# Altium footprint library Footprint.PcbLib: 31 footprints (part 1 of 2)
Each footprint in its own frame and in the unit in brackets; x right, y up, seen from the top. Pads: shape width x height; smd on the part's side, far side on the other; paste and mask are expansions set on the pad; w line width, h text height; cw(c..) or ccw(c..) is an arc to the next point about the centre after c.
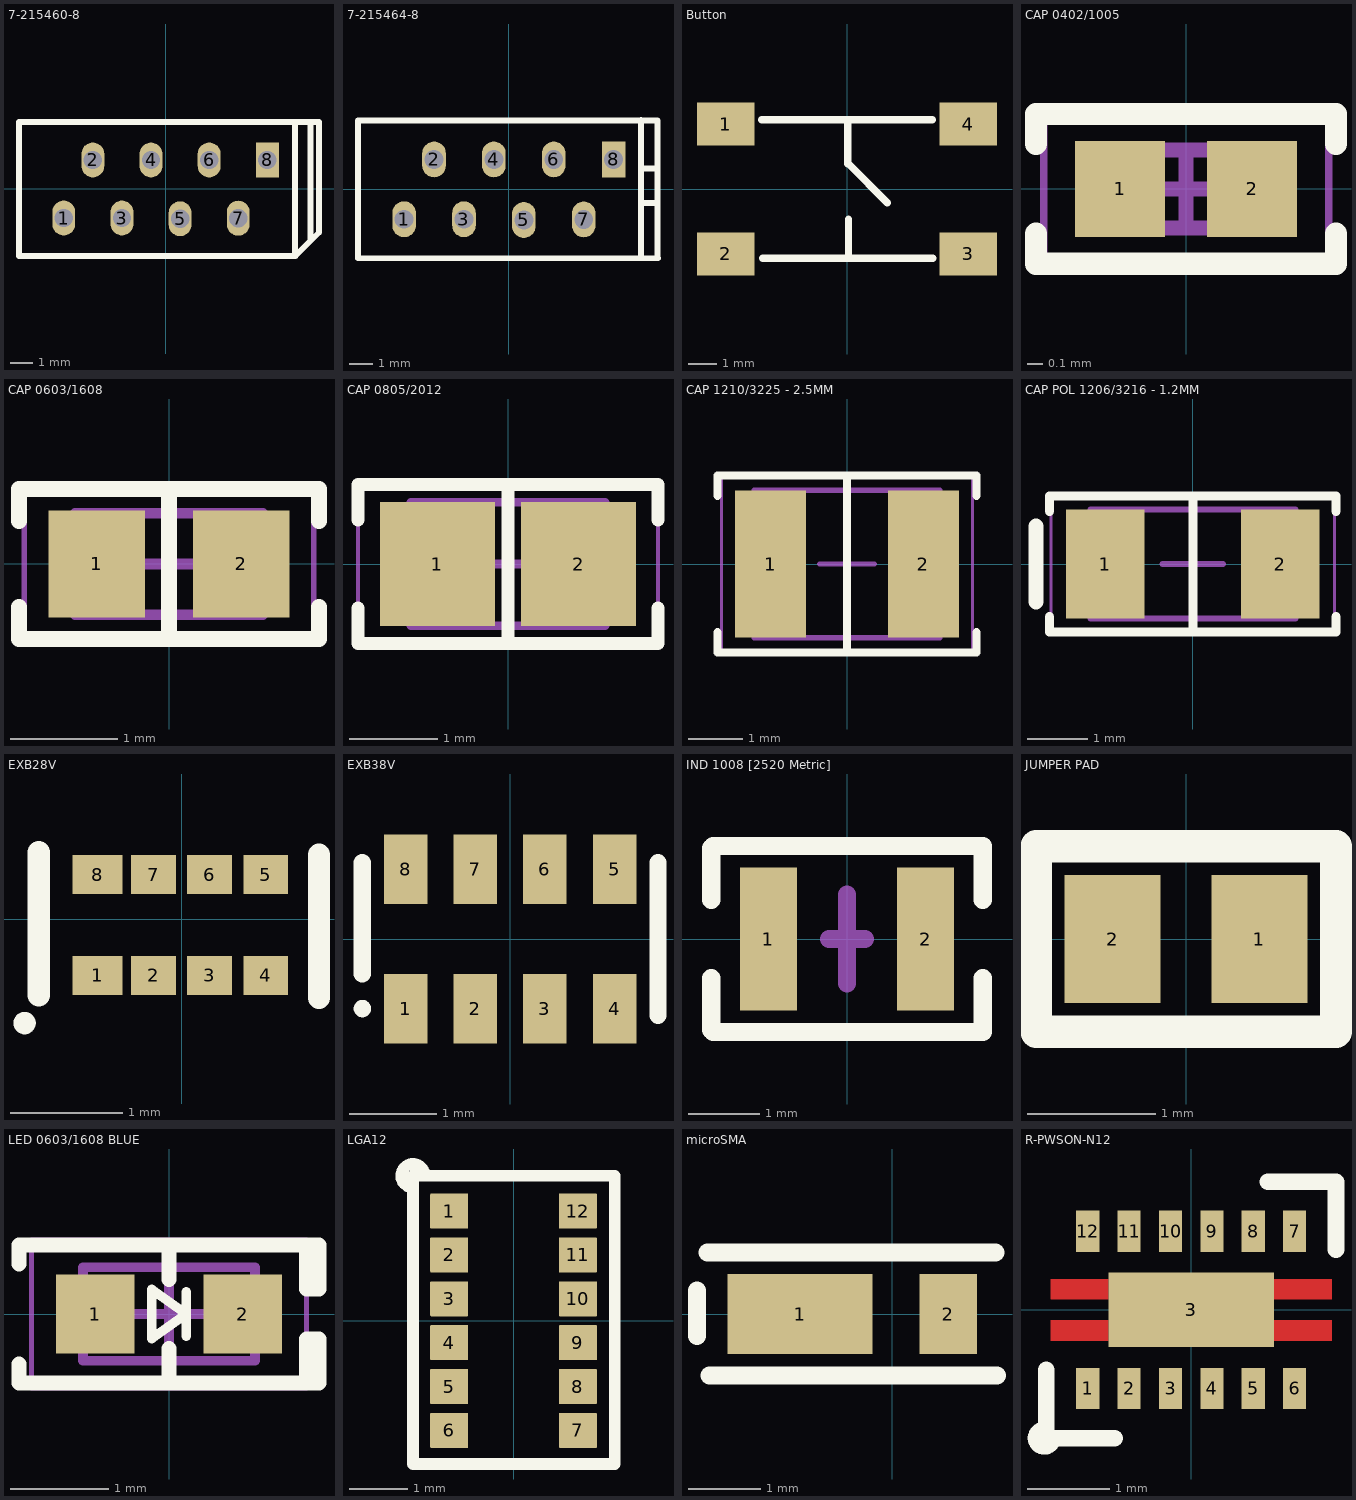
[diagram p0: the footprints below, top view; thin cyan lines are the x and y axes]

## 7-215460-8 [mm] "Connecteur carte-à-carte, Entrée latérale, 1.27 mm, 8 Contact(s), Embase, Série Micro-MaTch"
pads (8):
  oval 1x1.524 hole 0.8: 1(-4.445,-1.27) 2(-3.175,1.27) 3(-1.905,-1.27) 4(-0.635,1.27) 5(0.635,-1.3) 6(1.905,1.27) 7(3.175,-1.275)
  rect 1x1.524 hole 0.8: 8(4.445,1.27)
Top Overlay:
  lines w0.254: 5.65,2.625 5.65,2.925 5.65,-2.925 6.325,-2.25 6.325,2.925 ; 6.7,2.85 6.7,-1.9 5.675,-2.925 -6.4,-2.925 -6.4,2.925 6.7,2.925

## 7-215464-8 [mm] "Connecteur carte-à-carte, 1.27 mm, 8 Contact(s), Mâle, Série Micro-MaTch, Traversant, 2 Rangée(s)"
pads (8):
  oval 1x1.524 hole 0.8: 1(-4.445,-1.27) 2(-3.175,1.27) 3(-1.905,-1.27) 4(-0.635,1.27) 5(0.635,-1.3) 6(1.905,1.27) 7(3.175,-1.275)
  rect 1x1.524 hole 0.8: 8(4.445,1.27)
Top Overlay:
  lines w0.254: 5.6,-0.575 6.3,-0.575 ; 5.6,0.875 6.275,0.875 ; 5.6,2.95 5.6,-2.925 6.3,-2.925 6.3,2.925 -6.4,2.925 -6.4,-2.925 6.325,-2.925

## Button [mm]
pads (4):
  rect 2x1.5 smd: 1(-4.2,2.25) 2(-4.2,-2.25) 3(4.2,-2.25) 4(4.2,2.25)
Top Overlay:
  lines w0.254: -2.95,2.4 2.95,2.4 ; -2.925,-2.4 2.975,-2.4 ; 0.025,2.4 0.025,1.075 0.025,0.875 0.05,0.875 1.4,-0.475 ; 0.05,-2.375 0.05,-1.05
3D body "Tact Switch SMD 4.5x4.5mm.stp": height 3.8, standoff 0, extent -3.75,-2.25 3.75,2.25

## CAP 0402/1005 [mm] "Chip Capacitor, 2-Leads, Body 1.02x0.51mm, IPC Medium Density"
height 0.52
pads (2):
  rect 0.6x0.64 smd: 1(-0.44,0) 2(0.44,0)
Top Overlay:
  lines w0.15: -1,-0.3 -1,-0.5 1,-0.5 1,-0.3 ; -1,0.3 -1,0.5 1,0.5 1,0.3
Mechanical 13:
  lines w0.1: -0.515,-0.26 0.515,-0.26 0.515,0.26 -0.515,0.26 -0.515,-0.26
Mechanical 15:
  lines w0.05: -0.95,-0.5 0.95,-0.5 0.95,0.5 -0.95,0.5 -0.95,-0.5
  lines w0.1: -0.26,0 0.26,0 ; 0,-0.26 0,0.26
3D body "0402 cap.STEP": height 0.52, standoff 0, extent -0.5,-0.262 0.5,0.262

## CAP 0603/1608 [mm] "Chip Capacitor, 2-Leads, Body 1.60x0.80mm, IPC Medium Density"
height 0.89
pads (2):
  rect 0.9x1 smd: 1(-0.675,0) 2(0.675,0)
Top Overlay:
  lines w0.15: -1.4,-0.4 -1.4,-0.7 1.4,-0.7 1.4,-0.4 ; -1.4,0.4 -1.4,0.7 1.4,0.7 1.4,0.4 ; 0,-0.7 0,0.7
Mechanical 13:
  lines w0.1: -0.875,-0.475 -0.875,0.475 0.875,0.475 0.875,-0.475 -0.875,-0.475
Mechanical 15:
  lines w0.05: -1.35,-0.75 -1.35,0.75 1.35,0.75 1.35,-0.75 -1.35,-0.75
  lines w0.1: -0.475,0 0.475,0 ; 0,-0.475 0,0.475
3D body "0603 cap.STEP": height 0.82, standoff 0, extent -0.8,-0.412 0.8,0.412

## CAP 0805/2012 [mm] "Chip Capacitor, 2-Leads, Body 2.00x1.20mm, IPC Medium Density"
height 1.15
pads (2):
  rect 1.3x1.4 smd: 1(-0.8,0) 2(0.8,0)
Top Overlay:
  lines w0.15: -1.7,-0.5 -1.7,-0.9 1.7,-0.9 1.7,-0.5 ; -1.7,0.5 -1.7,0.9 1.7,0.9 1.7,0.5 ; 0,-0.9 0,0.9
Mechanical 13:
  lines w0.1: -1.1,-0.7 -1.1,0.7 1.1,0.7 1.1,-0.7 -1.1,-0.7
Mechanical 15:
  lines w0.05: -1.7,-0.95 -1.7,0.95 1.7,0.95 1.7,-0.95 -1.7,-0.95
  lines w0.1: -0.5,0 0.5,0 ; 0,-0.5 0,0.5
3D body "0805 cap.STEP": height 1.26, standoff -0.02, extent -1,-0.637 1,0.637

## CAP 1210/3225 - 2.5MM [mm] "Chip Capacitor, 2-Leads, Body 3.20x2.50mm, IPC Medium Density"
height 2.5
pads (2):
  rect 1.3x2.7 smd: 1(-1.4,0) 2(1.4,0)
Top Overlay:
  lines w0.15: -2.375,-1.25 -2.375,-1.625 2.375,-1.625 2.375,-1.25 ; -2.375,1.25 -2.375,1.625 2.375,1.625 2.375,1.25 ; 0,-1.625 0,1.625
Mechanical 13:
  lines w0.1: -1.7,-1.35 -1.7,1.35 1.7,1.35 1.7,-1.35 -1.7,-1.35
Mechanical 15:
  lines w0.05: -2.3,-1.6 -2.3,1.6 2.3,1.6 2.3,-1.6 -2.3,-1.6
  lines w0.1: -0.5,0 0.5,0 ; 0,-0.5 0,0.5
3D body "CAP 1210-2.5mm.STEP": height 2.5, standoff 0, extent -1.6,-1.25 1.6,1.25

## CAP POL 1206/3216 - 1.2MM [mm] "Chip Capacitor, 2-Leads, Body 3.25x1.60mm, IPC Medium Density"
height 1.2
pads (2):
  rect 1.3x1.8 smd: 1(-1.45,0) 2(1.45,0)
Top Overlay:
  lines w0.15: -2.375,-0.875 -2.375,-1.125 2.375,-1.125 2.375,-0.875 ; -2.375,0.875 -2.375,1.125 2.375,1.125 2.375,0.875 ; 0,-1.125 0,1.125
  lines w0.254: -2.6,-0.625 -2.6,0.625
Mechanical 13:
  lines w0.1: -1.7,-0.9 1.7,-0.9 1.7,0.9 -1.7,0.9 -1.7,-0.9
Mechanical 15:
  lines w0.05: -2.35,-1.15 2.35,-1.15 2.35,1.15 -2.35,1.15 -2.35,-1.15
  lines w0.1: -0.5,0 0.5,0 ; 0,-0.5 0,0.5
3D body "CAP 1206-1.2mm.STEP": height 1.2, standoff 0, extent -1.6,-0.8 1.6,0.8

## EXB28V [mm] "Réseau de résistance fixe, 4.7 kohm, 50 V, 4 Element(s), Isolé, 0402 [1005 Metric], 63 mW"
height 0.6
pads (8):
  rect 0.45x0.35 smd: 1(-0.75,-0.5) 8(-0.75,0.4)
  rect 0.4x0.35 smd: 2(-0.25,-0.5) 3(0.25,-0.5) 4(0.75,-0.5) 5(0.75,0.4) 6(0.25,0.4) 7(-0.25,0.4)
Top Overlay:
  circle w0.1: c-1.4,-0.925 r0.05
  lines w0.2: -1.275,-0.675 -1.275,0.6 ; 1.225,-0.7 1.225,0.575

## EXB38V [mm] "Chip Resistor Array, (0603x4); SM; 8 Leads; Body 3.40 x 1.75 mm (LxW max)"
height 0.6
pads (8):
  rect 0.5x0.8 smd: 1(-1.2,-0.8) 2(-0.4,-0.8) 3(0.4,-0.8) 4(1.2,-0.8) 5(1.2,0.8) 6(0.4,0.8) 7(-0.4,0.8) 8(-1.2,0.8)
Top Overlay:
  circle w0.1: c-1.7,-0.8 r0.05
  lines w0.2: -1.7,-0.4 -1.7,0.875 ; 1.7,-0.875 1.7,0.875

## IND 1008 [2520 Metric] [mm]
pads (2):
  rect 0.8x2 smd: 1(-1.1,0) 2(1.1,0)
Top Overlay:
  lines w0.254: -1.9,-1.275 -1.9,-0.55 ; -1.9,0.55 -1.9,1.275 ; -1.875,-1.3 1.9,-1.3 1.9,-0.55 ; -1.875,1.3 1.9,1.3 1.9,0.55
Mechanical 15:
  lines w0.254: -0.25,0 0.25,0 ; 0,-0.625 0,0.625
3D body: height 2.3, standoff 0.01, extent -1.05,-0.9 0.95,0.875

## JUMPER PAD [mm]
pads (2):
  rect 0.75x1 smd: 1(0.575,0) 2(-0.575,0)
Top Overlay:
  lines w0.254: -1.175,-0.725 -1.175,0.725 1.175,0.725 1.175,-0.725 -1.175,-0.725

## LED 0603/1608 BLUE [mm] "Chip Diode, 2-Leads, Body 1.60x0.80mm, IPC Medium Density"
height 0.45
pads (2):
  rect 0.8x0.8 smd: 1(-0.75,0) 2(0.75,0)
Top Overlay:
  lines w0.1: 0.175,-0.225 0.175,0 ; 0.175,0.225 0.175,0 ; 0.175,0 -0.175,-0.25 -0.175,0 -0.175,0.25 0.175,0
  lines w0.15: -1.524,-0.508 -1.524,-0.7 1.5,-0.7 ; -1.524,0.508 -1.524,0.7 1.5,0.7 ; 0,-0.7 0,-0.35 ; 0,0.35 0,0.7 ; 1.397,-0.7 1.397,-0.254 1.524,-0.254 1.524,-0.7 1.397,-0.7 ; 1.397,0.254 1.397,0.7 1.524,0.7 1.524,0.254 1.397,0.254
Mechanical 13:
  lines w0.1: -0.875,-0.475 0.875,-0.475 0.875,0.475 -0.875,0.475 -0.875,-0.475
Mechanical 15:
  lines w0.05: -1.397,-0.75 1.397,-0.75 1.397,0.75 -1.397,0.75 -1.397,-0.75
  lines w0.1: -0.475,0 0.475,0 ; 0,-0.475 0,0.475
3D body "LED 0603 Base BLUE.STEP": height 0.28, standoff 0, extent -0.8,-0.4 0.8,0.4
3D body "LED 0603 Lens BLUE.STEP": height 0.53, standoff 0.18, extent -0.55,-0.4 0.55,0.4

## LGA12 [mm] "optical IR sensor"
pads (12):
  rrect5% 0.65x0.6 smd: 1(-1.1,1.875) 2(-1.1,1.125) 3(-1.1,0.375) 4(-1.1,-0.375) 5(-1.1,-1.125) 6(-1.1,-1.875) 7(1.1,-1.875) 8(1.1,-1.125) 9(1.1,-0.375) 10(1.1,0.375) 11(1.1,1.125) 12(1.1,1.875)
Top Overlay:
  lines w0.2: -1.72,2.28 cw(c-1.72,2.48) -1.52,2.48 ; -1.72,-2.45 -1.72,2.48 1.73,2.48 1.73,-2.45 -1.72,-2.45
3D body: height 1, standoff 0.1, extent -1.43,-2.2 1.41,2.18

## microSMA [mm]
pads (2):
  rect 2x1.1 smd: 1(-1.275,0)
  rect 0.8x1.1 smd: 2(0.775,0)
Top Overlay:
  lines w0.254: -2.7,-0.3 -2.7,0.325 ; -2.55,0.85 1.425,0.85 ; -2.525,-0.85 1.45,-0.85

## R-PWSON-N12 [mm]
pads (13):
  rect 0.28x0.5 smd: 1(-1.25,-0.95) 2(-0.75,-0.95) 3(-0.25,-0.95) 4(0.25,-0.95) 5(0.75,-0.95) 6(1.25,-0.95) 7(1.25,0.95) 8(0.75,0.95) 9(0.25,0.95) 10(-0.25,0.95) 11(-0.75,0.95) 12(-1.25,0.95)
  rect 2x0.9 smd: 3(0,0)
Top Layer:
  rectangle: 1,0.125 1.7,0.375
  rectangle: 1,-0.375 1.7,-0.125
  rectangle: -1.7,-0.375 -1,-0.125
  rectangle: -1.7,0.125 -1,0.375
Top Overlay:
  lines w0.2: -1.775,-1.45 ccw(c-1.775,-1.55) -1.678,-1.572 ; -1.75,-0.725 -1.75,-1.55 -0.925,-1.55 ; 0.925,1.55 1.75,1.55 1.75,0.725
3D body: height 0.8, standoff 0.05, extent -1.55,-1.05 1.55,1.05